# EAGLE library part SN74HC595N (library SN74HC595N)
8-Bit Shift Registers With 3-State Output Registers Source: Datasheet <http://www.ti.com/lit/ds/symlink/sn74hc595.pdf>
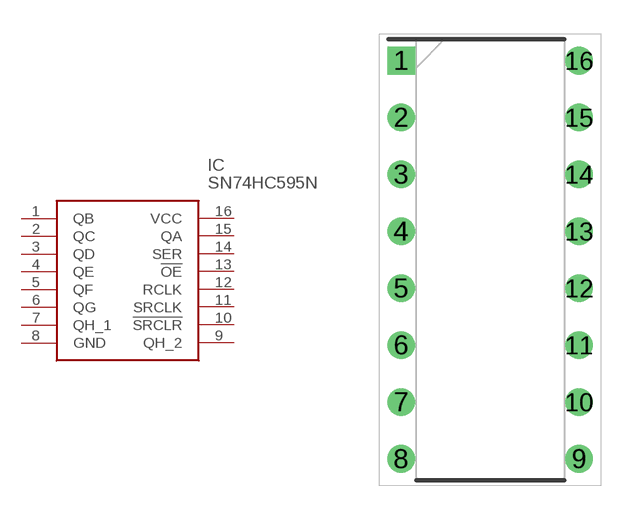
[diagram p0: symbol with the pads of DIP794W53P254L1930H508Q16N; footprint DIP794W53P254L1930H508Q16N]

Designator prefix IC

## SN74HC595N (Description: 8-Bit Shift Registers With 3-State Output Registers; Height: 5.08mm; Manufacturer_Name: Texas Instruments; Manufacturer_Part_Number: SN74HC595N; Mouser_Part_Number: 595-SN74HC595N; Mouser_Price-Stock: https://www.mouser.co.uk/ProductDetail/Texas-Instruments/SN74HC595N?qs=IEl3ej0IqwBTHkYa8XPoMQ%3D%3D)  [DIP794W53P254L1930H508Q16N]
1  QB
2  QC
3  QD
4  QE
5  QF
6  QG
7  QH_1
8  GND  pwr
9  QH_2
10  !SRCLR
11  SRCLK  in
12  RCLK  in
13  !OE
14  SER
15  QA
16  VCC  pwr

## Footprint DIP794W53P254L1930H508Q16N (pad centres in mm)
N (R-PDIP-T16)
drill 0.73 pad 1.13 square: 1 -3.97,8.89
drill 0.73 pad 1.13: 2 -3.97,6.35; 3 -3.97,3.81; 4 -3.97,1.27; 5 -3.97,-1.27; 6 -3.97,-3.81; 7 -3.97,-6.35; 8 -3.97,-8.89; 9 3.97,-8.89; 10 3.97,-6.35; 11 3.97,-3.81; 12 3.97,-1.27; 13 3.97,1.27; 14 3.97,3.81; 15 3.97,6.35; 16 3.97,8.89